# EAGLE library part K157UD2_IC (library _mtvl_ic.soviet)
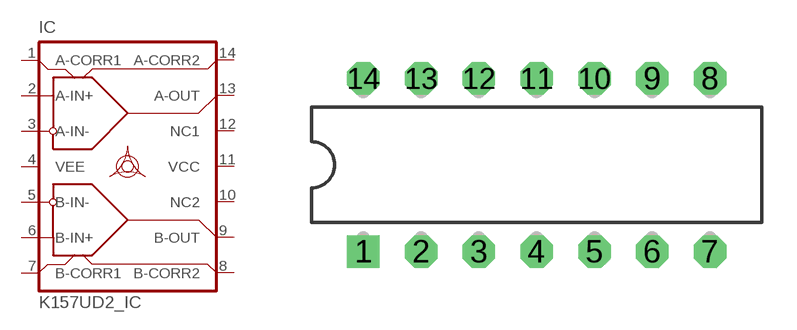
[diagram p2: symbol with the pads of 201.14-1; footprint 201.14-1]

Designator prefix IC

## K157UD2_IC  [201.14-1]
1  A-CORR1
2  A-IN+
3  A-IN-
4  VEE
5  B-IN-
6  B-IN+
7  B-CORR1
8  B-CORR2
9  B-OUT
10  NC2
11  VCC
12  NC1
13  A-OUT
14  A-CORR2

## Footprint 201.14-1 (pad centres in mm)
Dual In Line Package
drill 0.9 square: 1 -7.5,-3.75
drill 0.9 octagon: 2 -5,-3.75; 3 -2.5,-3.75; 4 0,-3.75; 5 2.5,-3.75; 6 5,-3.75; 7 7.5,-3.75; 8 7.5,3.75; 9 5,3.75; 10 2.5,3.75; 11 0,3.75; 12 -2.5,3.75; 13 -5,3.75; 14 -7.5,3.75